# EAGLE library part 693063020911 (library MicroUSB)
WR-CRD SD CARD CONNECTOR PUSH & PULL SHORT TYPE WITH CARD DETECTION 9PINS
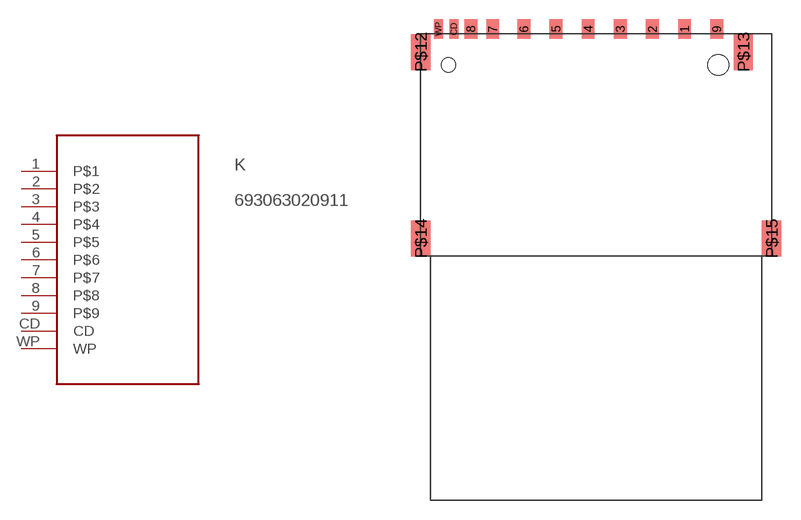
[diagram p28: symbol with the pads of 693063020911; footprint 693063020911]

Designator prefix K

## 693063020911  [693063020911]
1  P$1
2  P$2
3  P$3
4  P$4
5  P$5
6  P$6
7  P$7
8  P$8
9  P$9
CD  CD
WP  WP

## Footprint 693063020911 (pad centres in mm)
WR-CRD SD CARD CONNECTOR PUSH & PULL SHORT TYPE WITH CARD DETECTION 9PINS
smd 1 x 1.5: 1 19.125,0; 2 16.625,0; 3 14.125,0; 4 11.625,0; 5 9.125,0; 6 6.625,0; 7 4.2,0; 8 2.5,0; 9 21.625,0
smd 0.7 x 1.5: CD 1.2,0; WP 0,0
smd 1.5 x 2.8: P$12 -1.4,-1.8; P$13 23.7,-1.8; P$14 -1.4,-16.3; P$15 25.9,-16.3
hole 1.1 at 0.75,-2.8
hole 1.6 at 21.75,-2.8